# Altium schematic symbol library Schottky_Diodes.SchLib: 7 symbols
Pins are listed as number, name and electrical type; pins without a type are passive.

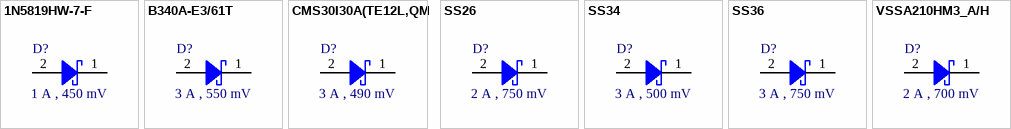
[diagram p0: symbols 1N5819HW-7-F to VSSA210HM3_A/H]

## 1N5819HW-7-F
designator D?, comment 1 A , 450 mV
Schottky Diodes & Rectifiers 2.0 Amp 60 Volt 40 Amp IFSM; Manufacturer Part Number: 1N5819HW-7-F; Forward Current: 1 A; Forward Voltage: 450 mV; Max Surge Current: 25 A; Peak Reverse Voltage: 40 V; Power Dissipation: 450 mW; Reverse Current: 1 mA; Type: Schottky; Supplier 1 URL: https://www.mouser.com/ProductDetail/Diodes-Incorporated/1N5819HW-7-F?qs=NQ47qNm99eDyWTEd07miYA%3D%3D; Supplier 2 URL: https://www.digikey.com/en/products/detail/diodes-incorporated/1n5819hw-7-f/814970; Supplier 3 URL: N/A; Value: 1 A , 450 mV; Manufacturer: DIODES; Maximum Diode Capacitance: N/A; Recovery Time: N/A; Supplier 1: Mouser; Supplier 1 Part Number: 621-1N5819HW-F; Supplier 2: Digi-Key; Supplier 2 Part Number: 1N5819HW-FDITR-ND; Supplier 3: thegioiic; Supplier 3 Part Number: N/A; Mount: SMD/SMT; Operating Temperature Max: + 125 C; Operating Temperature Min: - 65 C; Package / Case: SOD-123-2; Packaging: Tape and Reel; ComponentLink1Description: Datasheet; ComponentLink1URL: https://www.vishay.com/doc?89055; LCSC Part #: C82544
footprint SOD-123 (SOIC, 2-Leads, Body 1.55x2.70mm, Pitch 1.27mm, IPC Medium Density)
pins: 1 K, 2 A

## B340A-E3/61T
designator D?, comment 3 A , 550 mV
Schottky Diodes & Rectifiers 3.0 Amp 40 Volt; Manufacturer: Vishay Semiconductors; Manufacturer Part Number: B340A-E3/61T; Forward Current: 3 A; Forward Voltage: 550 mV; Max Surge Current: 65 A; Peak Reverse Voltage: 40 V; Reverse Current: 500 uA; Type: Schottky; Supplier 1 URL: https://www.mouser.com/ProductDetail/Vishay-General-Semiconductor/B340A-E3-61T?qs=tdXsjSi%2FIMY4I2dGLbnpzg%3D%3D; Supplier 2 URL: https://www.digikey.com/en/products/detail/vishay-general-semiconductor-diodes-division/b340a-e3-61t/2149679; Supplier 3 URL: N/A; Value: 3 A , 550 mV; Maximum Diode Capacitance: N/A; Power Dissipation: N/A; Recovery Time: N/A; Supplier 1: Mouser; Supplier 1 Part Number: 625-BD340A-E3/61T; Supplier 2: Digi-Key; Supplier 2 Part Number: B340A-E3/61TGITR-ND; Supplier 3: thegioiic; Supplier 3 Part Number: N/A; Mount: SMD/SMT; Operating Temperature Max: + 150 C; Operating Temperature Min: - 65 C; Package / Case: SMA (DO-214AC); Packaging: Tape and Reel; ComponentLink1Description: Datasheet; ComponentLink1URL: https://www.vishay.com/docs/88896/b330la.pdf; LCSC Part #: C15570
footprint SMA (DO-214AC) (Molded Diode, 2-Leads, Body 4.25x2.67mm, IPC Medium Density)
pins: 1 K, 2 A

## CMS30I30A(TE12L,QM
designator D?, comment 3 A , 490 mV
Schottky Diodes & Rectifiers 30V Vrrm 3.0A IF 0.49V VFM 30A IFSM; Manufacturer: Toshiba; Manufacturer Part Number: CMS30I30A(TE12L,QM; Forward Current: 3 A; Forward Voltage: 490 mV; Reverse Current: 100 uA; Type: Schottky; Supplier 1 URL: https://www.mouser.vn/ProductDetail/Vishay-General-Semiconductor/SS26S-E3-5AT?qs=tWM4QuTcS4UlRJgxN3V1tg%3D%3D; Supplier 2 URL: N/A; Supplier 3 URL: N/A; Value: 3 A , 490 mV; Maximum Diode Capacitance: N/A; Max Surge Current: 30 A; Peak Reverse Voltage: 30 V; Power Dissipation: N/A; Recovery Time: N/A; Supplier 1: Mouser; Supplier 1 Part Number: 757-CMS30I30ATE12LQM; Supplier 2: Digi-Key; Supplier 2 Part Number: N/A; Supplier 3: thegioiic; Supplier 3 Part Number: N/A; Mount: SMD/SMT; Operating Temperature Max: + 85 C; Operating Temperature Min: - 40 C; Package / Case: SMA (DO-214AC); Packaging: Tape and Reel; ComponentLink1Description: Datasheet; ComponentLink1URL: https://www.vishay.com/doc?89055; LCSC Part #: C2762688
footprint 3-4E1S (SODFL, 2-Leads, Body 2.40x4.70mm, IPC Medium Density)
pins: 1 K, 2 A

## SS26
designator D?, comment 2 A , 750 mV
Schottky Diodes & Rectifiers 2.0 Amp 60 Volt 40 Amp IFSM; Manufacturer: Vishay Semiconductors; Manufacturer Part Number: SS26S-E3/5AT; Forward Current: 2 A; Forward Voltage: 750 mV; Max Surge Current: 40 A; Peak Reverse Voltage: 60 V; Reverse Current: 200 uA; Type: Schottky; Supplier 1 URL: https://www.mouser.vn/ProductDetail/Vishay-General-Semiconductor/SS26S-E3-5AT?qs=tWM4QuTcS4UlRJgxN3V1tg%3D%3D; Supplier 2 URL: https://www.digikey.com/en/products/detail/vishay-general-semiconductor-diodes-division/ss26s-e3-5at/2148827; Supplier 3 URL: https://www.thegioiic.com/ss26-smb-diode-schottky-2a; Value: 2 A , 750 mV; Maximum Diode Capacitance: N/A; Power Dissipation: N/A; Recovery Time: N/A; Supplier 1: Mouser; Supplier 1 Part Number: 625-SS26S-E3/5AT; Supplier 2: Digi-Key; Supplier 2 Part Number: SS26S-E3/5ATGITR-ND; Supplier 3: thegioiic; Supplier 3 Part Number: SS26; Mount: SMD/SMT; Operating Temperature Max: + 85 C; Operating Temperature Min: - 40 C; Package / Case: SMA (DO-214AC); Packaging: Tape and Reel; ComponentLink1Description: Datasheet; ComponentLink1URL: https://www.vishay.com/doc?89055; LCSC Part #: C5350986
footprint SMA (DO-214AC) (Molded Diode, 2-Leads, Body 4.25x2.67mm, IPC Medium Density)
pins: 1 K, 2 A

## SS34
designator D?, comment 3 A , 500 mV
Schottky Diodes & Rectifiers 3.0 Amp 40 Volt; Manufacturer: Vishay Semiconductors; Manufacturer Part Number: SS34-E3/57T; Forward Current: 3 A; Forward Voltage: 500 mV; Max Surge Current: 100 A; Peak Reverse Voltage: 40 V; Reverse Current: 500 uA; Type: Schottky; Supplier 1 URL: https://www.mouser.vn/ProductDetail/Vishay-General-Semiconductor/SS34-E3-57T?qs=x2jpVgRnAtMC3f38kYWnRw%3D%3D; Supplier 2 URL: https://www.digikey.com/en/products/detail/vishay-general-semiconductor-diodes-division/ss34-e3-57t/1091554; Supplier 3 URL: https://www.thegioiic.com/ss34-sma-diode-schottky-3a; Value: 3 A , 500 mV; Maximum Diode Capacitance: N/A; Power Dissipation: N/A; Recovery Time: N/A; Supplier 1: Mouser; Supplier 1 Part Number: 625-SS34-E3; Supplier 2: Digi-Key; Supplier 2 Part Number: SS34-E3/57TGITR-ND; Supplier 3: thegioiic; Supplier 3 Part Number: SS34; Mount: SMD/SMT; Operating Temperature Max: + 85 C; Operating Temperature Min: - 40 C; Package / Case: SMC (DO-214AB); Packaging: Tape and Reel; ComponentLink1Description: Datasheet; ComponentLink1URL: https://www.vishay.com/doc?88751; LCSC Part #: C3008890
footprint SMC (DO-214AB) (Molded Diode, 2-Leads, Body 6.85x5.91mm, IPC Medium Density)
pins: 1 K, 2 A

## SS36
designator D?, comment 3 A , 750 mV
Schottky Diodes & Rectifiers 3.0 Amp 60 Volt; Manufacturer: Vishay Semiconductors; Manufacturer Part Number: SS36-E3/57T; Forward Current: 3 A; Forward Voltage: 750 mV; Max Surge Current: 100 A; Peak Reverse Voltage: 60 V; Reverse Current: 500 uA; Type: Schottky; Supplier 1 URL: https://www.mouser.vn/ProductDetail/Vishay-General-Semiconductor/SS36-E3-57T?qs=x2jpVgRnAtNdHfPfldPWaQ%3D%3D; Supplier 2 URL: https://www.digikey.com/en/products/detail/vishay-general-semiconductor-diodes-division/ss36-e3-57t/1091555; Supplier 3 URL: https://www.thegioiic.com/ss36-sma-diode-schottky-3a; Value: 3 A , 750 mV; Maximum Diode Capacitance: N/A; Power Dissipation: N/A; Recovery Time: N/A; Supplier 1: Mouser; Supplier 1 Part Number: 625-SS36-E3; Supplier 2: Digi-Key; Supplier 2 Part Number: SS36-E3/57TGITR-ND; Supplier 3: thegioiic; Supplier 3 Part Number: SS36; Mount: SMD/SMT; Operating Temperature Max: + 85 C; Operating Temperature Min: - 40 C; Package / Case: SMC (DO-214AB); Packaging: Tape and Reel; ComponentLink1Description: Datasheet; ComponentLink1URL: https://www.vishay.com/doc?88751; LCSC Part #: N/A
footprint SMC (DO-214AB) (Molded Diode, 2-Leads, Body 6.85x5.91mm, IPC Medium Density)
pins: 1 K, 2 A

## VSSA210HM3_A/H
designator D?, comment 2 A , 700 mV
Schottky Diodes & Rectifiers 2.0 Amp 100 Volt 60 Amp IFSM; Manufacturer: Vishay Semiconductors; Manufacturer Part Number: VSSA210HM3_A/H; Value: 2 A; Forward Voltage: 700 mV; Max Surge Current: 60 A; Peak Reverse Voltage: 100 V; Reverse Current: 150 uA; Type: Schottky; Supplier 1 URL: https://www.mouser.vn/en/ProductDetail/Vishay-Semiconductors/VSSA210HM3_A-H?qs=3SS1MhAOHqoHsIZ%2FmKxr2w%3D%3D; Supplier 2 URL: https://www.digikey.com/en/products/detail/vishay-general-semiconductor-diodes-division/vssa210hm3-a-h/5427198; Supplier 3 URL: N/A; Forward Current: 2 A; Maximum Diode Capacitance: N/A; Power Dissipation: N/A; Recovery Time: N/A; Supplier 1: Mouser; Supplier 1 Part Number: 78-VSSA210HM3_A/H; Supplier 2: Digi-Key; Supplier 2 Part Number: VSSA210HM3_A/HGITR-ND; Supplier 3: thegioiic; Supplier 3 Part Number: N/A; Mount: SMD/SMT; Operating Temperature Max: + 85 C; Operating Temperature Min: - 40 C; Package / Case: SMA (DO-214AC); Packaging: Tape and Reel; ComponentLink1Description: Datasheet; ComponentLink1URL: https://www.lcsc.com/datasheet/C2983557.pdf?spm=wm.sxq.inf.ggs___wm.fly.bg.13.xh&lcsc_vid=FQMKBABWTgUIBQJQFFEMBgBUFFIPVlNeFQReAQVWFFgxVlNeQlVeVVxWQFhYVDsOAxUeFF5JWBYZEEoKFBINSQcJGk4NBhADEA4cHktXTlRZSQwSGg0%3D; LCSC Part #: C2983557
footprint SMA (DO-214AC) (Molded Diode, 2-Leads, Body 4.25x2.67mm, IPC Medium Density)
pins: 1 K, 2 A